# Altium schematic symbol library 电阻电容电感.SchLib: 7 symbols
Pins are listed as number, name and electrical type; pins without a type are passive.

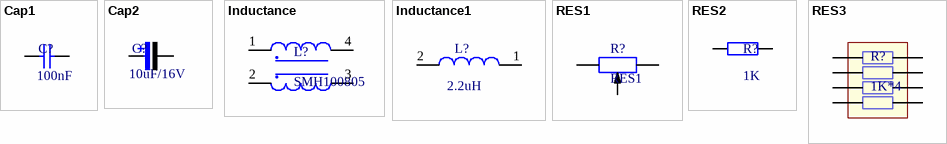
[diagram p0: symbols Cap1 to RES3]

## Cap1
designator C?  value 100nF  (hidden comment: Cap1)
无极性电容; Published: 8-Jun-2000; LatestRevisionDate: 17-Jul-2002; LatestRevisionNote: Re-released for DXP Platform.; PackageReference: RAD-0.3; Publisher: Altium Limited
footprint C-RAD (瓷片电容)
footprint C-RAD-0805 (贴片电容)
footprint C-RAD-0603 (贴片电容)
footprint 0603-2 (贴片无丝印)
footprint 0805-2 (贴片无丝印)
footprint C-RAD-3528 (贴片电容)
pins: 1, 2

## Cap2
designator C?, comment value 10uF/16V  (hidden comment: Cap)
极性电解电容; Published: 8-Jun-2000; LatestRevisionDate: 17-Jul-2002; LatestRevisionNote: Re-released for DXP Platform.; PackageReference: RB7.6-15; Publisher: Altium Limited
footprint CAP-7343 (钽电容)
footprint CAP-3528 (钽电容)
footprint CAP-3216 (钽电容)
footprint C-RB-S10 (贴片电解)
footprint C-RB-S6 (贴片电解)
footprint CAP-6032 (钽电容)
footprint C-RB-10 (35V470uF电容)
footprint C-RB-18 (35V2200uF电容)
footprint C-RB-8 (35V 220UF电容)
footprint C-RB-12 (35V470uF电容)
footprint C-RB-S8 (贴片电解)
pins: 1, 2
1 alternate drawing of the same symbol

## Inductance
designator L?, comment SMH100805
共模电感; Value: SMH100805; PackageReference: *
pins: 1, 2, 3, 4

## Inductance1
designator L?, comment value 2.2uH  (hidden comment: Inductance)
电感; PackageReference: *
pins: 1, 2

## RES1
designator R?
可调电阻
pins: 1, 2, 3

## RES2
designator R?, comment 1K
电阻; PackageReference: 0805; Value: 1K
footprint Cap 0805
footprint Cap 0402
footprint Cap 0603
pins: 1, 2

## RES3
designator R?, comment 1K*4
排阻
pins: 1, 2, 3, 4, 5, 6, 7, 8